# Altium footprint library Conn_HIROSE_DF11CZ-16DS-2V_22_eec_0.PcbLib: 1 footprints
Each footprint in its own frame and in the unit in brackets; x right, y up, seen from the top. Pads: shape width x height; smd on the part's side, far side on the other; paste and mask are expansions set on the pad; w line width, h text height; cw(c..) or ccw(c..) is an arc to the next point about the centre after c.
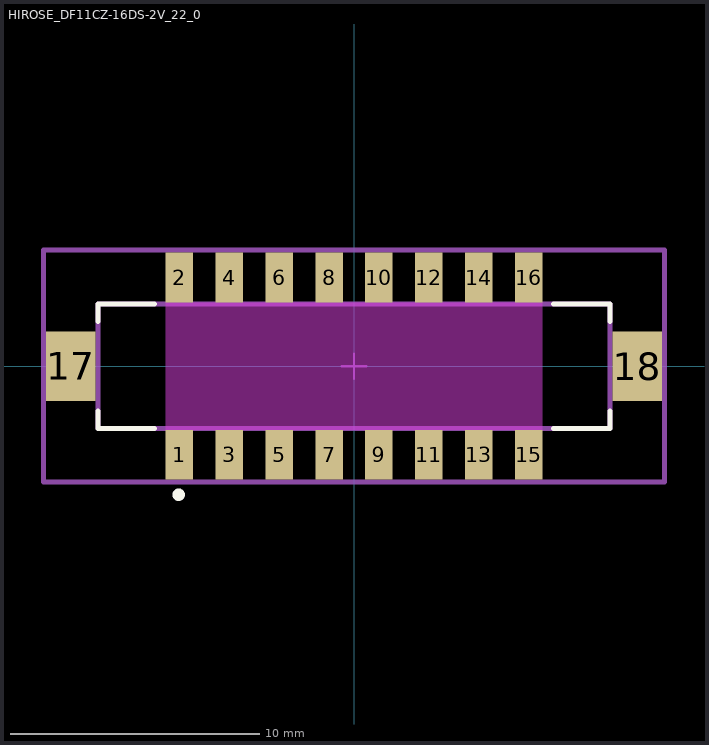
[diagram p0: the footprint, top view; thin cyan lines are the x and y axes]

## HIROSE_DF11CZ-16DS-2V_22_0 [mm]
pads (18):
  rect 1.1x2 smd paste+0 mask+0: 1(-7,-3.55) 2(-7,3.55) 3(-5,-3.55) 4(-5,3.55) 5(-3,-3.55) 6(-3,3.55) 7(-1,-3.55) 8(-1,3.55) 9(1,-3.55) 10(1,3.55) 11(3,-3.55) 12(3,3.55) 13(5,-3.55) 14(5,3.55) 15(7,-3.55) 16(7,3.55)
  rect 2x2.8 smd paste+0 mask+0: 17(-11.35,0) 18(11.35,0)
Top Overlay:
  circle w0.25: c-7.025,-5.15 r0.125
  lines w0.2: -10.25,-1.8 -10.25,-2.5 -8,-2.5 ; -10.25,1.8 -10.25,2.5 -8,2.5 ; 8,-2.5 10.25,-2.5 10.25,-1.8 ; 8,2.5 10.25,2.5 10.25,1.8
Keep-Out Layer:
  rectangle: -7.55,-2.55 7.55,2.55
Mechanical 10:
  lines w0.2: -12.45,-4.65 12.45,-4.65 12.45,4.65 -12.45,4.65 -12.45,-4.65
  text ".Designator" at 0,0.188 h1
Mechanical 12:
  lines w0.2: -10.25,-2.5 10.25,-2.5 10.25,2.5 -10.25,2.5 -10.25,-2.5
Mechanical 15:
  lines w0.1: -0.5,0 0.5,0 ; 0,-0.5 0,0.5
  lines w0.2: -12.45,-4.65 12.45,-4.65 12.45,4.65 -12.45,4.65 -12.45,-4.65
3D body "Conn_HIROSE_DF11CZ-16DS-2V_22_eec.STEP": height 0.25, standoff 0, extent -12.45,-4.65 12.45,4.65